# Altium integrated library CY8C6316BZI-BLF03.IntLib: 1 symbol
Pins are listed as number, name and electrical type; pins without a type are passive.

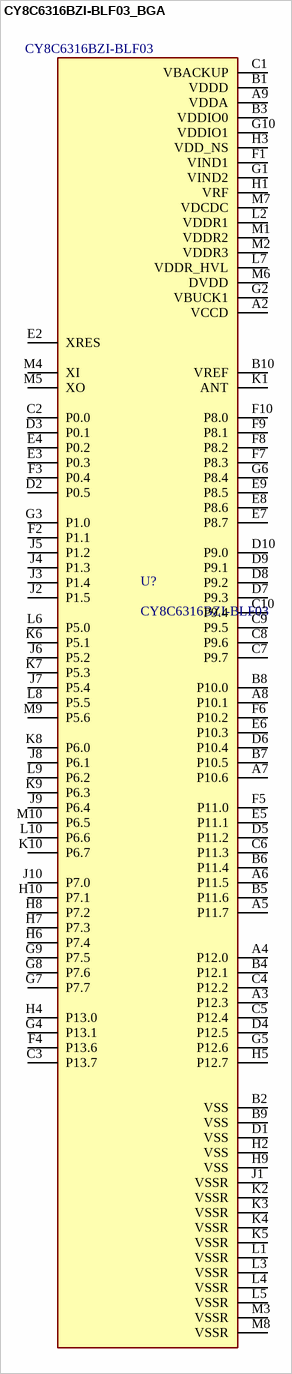
[diagram p0: symbol CY8C6316BZI-BLF03_BGA]

## CY8C6316BZI-BLF03_BGA
designator U?, comment CY8C6316BZI-BLF03
ARM® Cortex®-M4 series Microcontroller IC 32-Bit Single-Core 50MHz 512KB (512K x 8) FLASH 116-BGA (5.2x6.4); Supplier 1: Arrow Electronics; Supplier Part Number 1: CY8C6316BZI-BLF03
footprint BGA116N50P10X12_520X640X70N
pins: A2 VCCD (power), A3 P12.3, A4 P12.0, A5 P11.7, A6 P11.5, A7 P10.6, A8 P10.1, A9 VDDA (power), B1 VDDD (power), B2 VSS (power), B3 VDDIO0 (power), B4 P12.1, B5 P11.6, B6 P11.4, B7 P10.5, B8 P10.0, B9 VSS (power), B10 VREF, C1 VBACKUP (power), C2 P0.0, C3 P13.7, C4 P12.2, C5 P12.4, C6 P11.3, C7 P9.7, C8 P9.6, C9 P9.5, C10 P9.4, D1 VSS (power), D2 P0.5, D3 P0.1, D4 P12.5, D5 P11.2, D6 P10.4, D7 P9.3, D8 P9.2, D9 P9.1, D10 P9.0, E2 XRES, E3 P0.3, E4 P0.2, E5 P11.1, E6 P10.3, E7 P8.7, E8 P8.6, E9 P8.5, F1 VIND1 (power), F2 P1.1, F3 P0.4, F4 P13.6, F5 P11.0, F6 P10.2, F7 P8.3, F8 P8.2, F9 P8.1, F10 P8.0, G1 VIND2 (power), G2 VBUCK1 (power), G3 P1.0, G4 P13.1, G5 P12.6, G6 P8.4, G7 P7.7, G8 P7.6, G9 P7.5, G10 VDDIO1 (power), H1 VRF (power), H2 VSS (power), H3 VDD_NS (power), H4 P13.0, H5 P12.7, H6 P7.4, H7 P7.3, H8 P7.2, H9 VSS (power), H10 P7.1, J1 VSSR (power), J2 P1.5, J3 P1.4, J4 P1.3, J5 P1.2, J6 P5.2, J7 P5.4, J8 P6.1, J9 P6.4, J10 P7.0, K1 ANT, K2 VSSR (power), K3 VSSR (power), K4 VSSR (power), K5 VSSR (power), K6 P5.1, K7 P5.3, K8 P6.0, K9 P6.3, K10 P6.7, L1 VSSR (power), L2 VDDR1 (power), L3 VSSR (power), L4 VSSR (power), L5 VSSR (power), L6 P5.0, L7 VDDR_HVL (power), L8 P5.5, L9 P6.2, L10 P6.6, M1 VDDR2 (power), M2 VDDR3 (power), M3 VSSR (power), M4 XI, M5 XO, M6 DVDD (power), M7 VDCDC (power), M8 VSSR (power), M9 P5.6, M10 P6.5